# Altium footprint library ws2816a-2121.PcbLib: 1 footprints
Each footprint in its own frame and in the unit in brackets; x right, y up, seen from the top. Pads: shape width x height; smd on the part's side, far side on the other; paste and mask are expansions set on the pad; w line width, h text height; cw(c..) or ccw(c..) is an arc to the next point about the centre after c.
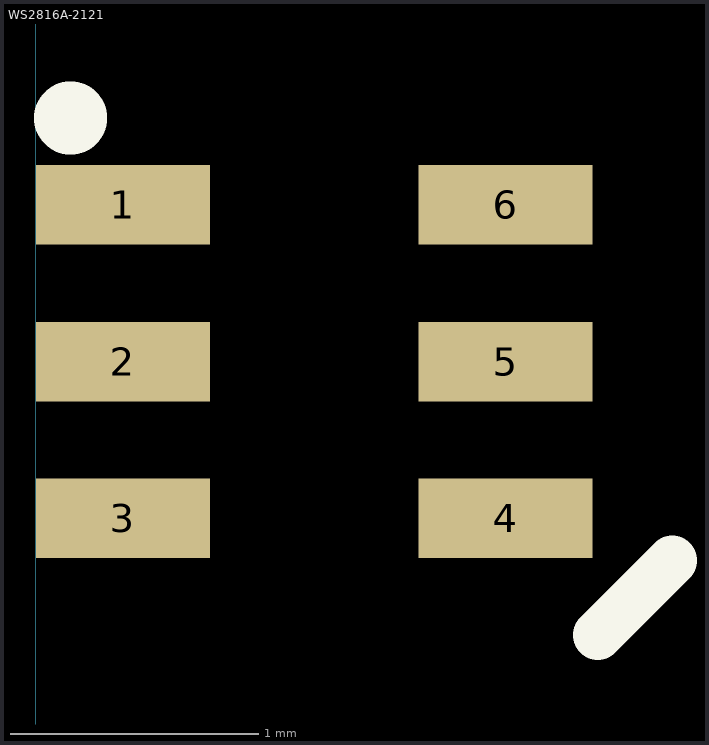
[diagram p0: the footprint, top view; thin cyan lines are the x and y axes]

## WS2816A-2121 [mm]
pads (6):
  rect 0.7x0.32 smd: 1(0.35,3) 2(0.35,2.37) 3(0.35,1.74) 4(1.89,1.74) 5(1.89,2.37) 6(1.89,3)
Top Overlay:
  circle w0.254: c0.14,3.35 r0.02
  lines w0.2: 2.26,1.27 2.56,1.57